# EAGLE library part AD7994BRUZ-0 (library TPS55288)
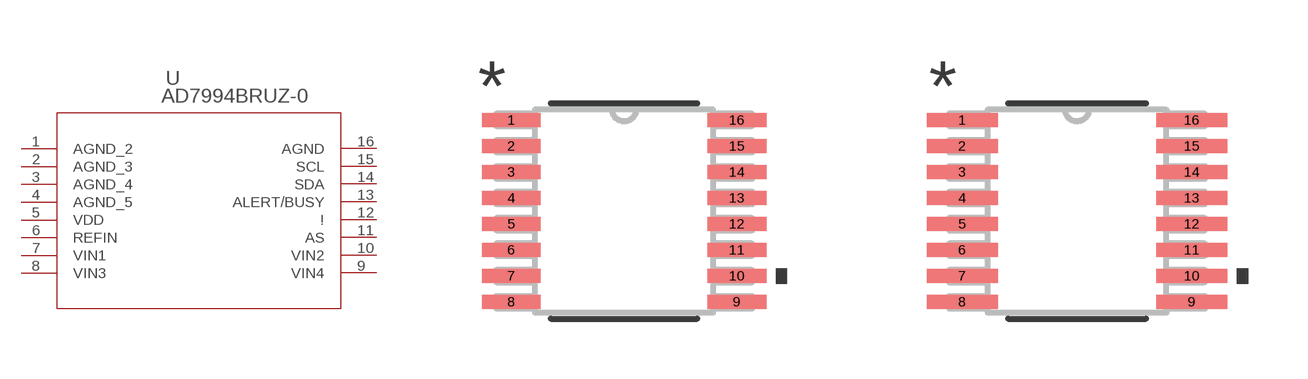
[diagram p0: symbol with the pads of RU_16_ADI; footprints RU_16_ADI, RU_16_ADI-M]

Designator prefix U

## AD7994BRUZ-0 (COPYRIGHT: Copyright (C) 2022 Ultra Librarian. All rights reserved.; MANUFACTURER_PART_NUMBER: AD7994BRUZ-0; MFR_NAME: Analog Devices Inc)  [RU_16_ADI]
1  AGND_2  pas
2  AGND_3  pas
3  AGND_4  pas
4  AGND_5  pas
5  VDD  pwr
6  REFIN  pas
7  VIN1  pas
8  VIN3  pas
9  VIN4  pas
10  VIN2  pas
11  AS  pas
12  !  pas
13  ALERT/BUSY  pas
14  SDA  pas
15  SCL  pas
16  AGND  pas

## AD7994BRUZ-0RU_16_ADI-M (COPYRIGHT: Copyright (C) 2022 Ultra Librarian. All rights reserved.; MANUFACTURER_PART_NUMBER: AD7994BRUZ-0; MFR_NAME: Analog Devices Inc)  [RU_16_ADI-M]
Pads as for RU_16_ADI

## AD7994BRUZ-0RU_16_ADI-L (COPYRIGHT: Copyright (C) 2022 Ultra Librarian. All rights reserved.; MANUFACTURER_PART_NUMBER: AD7994BRUZ-0; MFR_NAME: Analog Devices Inc)  [RU_16_ADI-L]
Pads as for RU_16_ADI

## Footprint RU_16_ADI (pad centres in mm)
smd 1.473 x 0.356: 1 -2.819,2.275; 2 -2.819,1.625; 3 -2.819,0.975; 4 -2.819,0.325; 5 -2.819,-0.325; 6 -2.819,-0.975; 7 -2.819,-1.625; 8 -2.819,-2.275; 9 2.819,-2.275; 10 2.819,-1.625; 11 2.819,-0.975; 12 2.819,-0.325; 13 2.819,0.325; 14 2.819,0.975; 15 2.819,1.625; 16 2.819,2.275

## Footprint RU_16_ADI-M (pad centres in mm)
smd 1.778 x 0.356: 1 -2.87,2.275; 2 -2.87,1.625; 3 -2.87,0.975; 4 -2.87,0.325; 5 -2.87,-0.325; 6 -2.87,-0.975; 7 -2.87,-1.625; 8 -2.87,-2.275; 9 2.87,-2.275; 10 2.87,-1.625; 11 2.87,-0.975; 12 2.87,-0.325; 13 2.87,0.325; 14 2.87,0.975; 15 2.87,1.625; 16 2.87,2.275

## Footprint RU_16_ADI-L (pad centres in mm)
smd 1.168 x 0.305: 1 -2.769,2.275; 2 -2.769,1.625; 3 -2.769,0.975; 4 -2.769,0.325; 5 -2.769,-0.325; 6 -2.769,-0.975; 7 -2.769,-1.625; 8 -2.769,-2.275; 9 2.769,-2.275; 10 2.769,-1.625; 11 2.769,-0.975; 12 2.769,-0.325; 13 2.769,0.325; 14 2.769,0.975; 15 2.769,1.625; 16 2.769,2.275